# EAGLE library part TYPE-C-31-M-17 (library TYPE-C-31-M-17)
USB Connectors 6 Receptacle 1 RoHS Source: Datasheet <https://datasheet.lcsc.com/szlcsc/1903211732_Korean-Hroparts-Elec-TYPE-C-31-M-17_C283540.pdf>
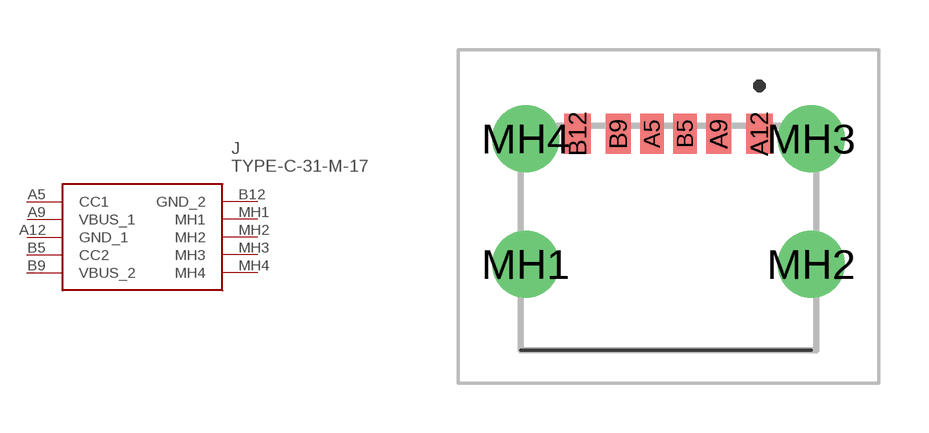
[diagram p0: symbol with the pads of TYPEC31M17; footprint TYPEC31M17]

Designator prefix J

## TYPE-C-31-M-17 (Description: USB Connectors 6 Receptacle 1 RoHS; Height: 3.26mm; Manufacturer_Name: Korean Hroparts Elec; Manufacturer_Part_Number: TYPE-C-31-M-17)  [TYPEC31M17]
A5  CC1
A9  VBUS_1
A12  GND_1
B5  CC2
B9  VBUS_2
B12  GND_2
MH1  MH1
MH2  MH2
MH3  MH3
MH4  MH4

## Footprint TYPEC31M17 (pad centres in mm)
TYPE-C-31-M-17-1
smd 0.7 x 1.2: A5 -0.5,2.5; B5 0.5,2.5
smd 0.76 x 1.2: A9 1.52,2.5; B9 -1.52,2.5
smd 0.8 x 1.2: A12 2.75,2.5; B12 -2.75,2.5
drill 1.346 pad 2: MH1 -4.32,-1.45; MH2 4.32,-1.45; MH3 4.32,2.35; MH4 -4.32,2.35